# Altium footprint library Connector_Dsub.PcbLib: 120 footprints (part 8 of 8)
Each footprint in its own frame and in the unit in brackets; x right, y up, seen from the top. Pads: shape width x height; smd on the part's side, far side on the other; paste and mask are expansions set on the pad; w line width, h text height; cw(c..) or ccw(c..) is an arc to the next point about the centre after c.
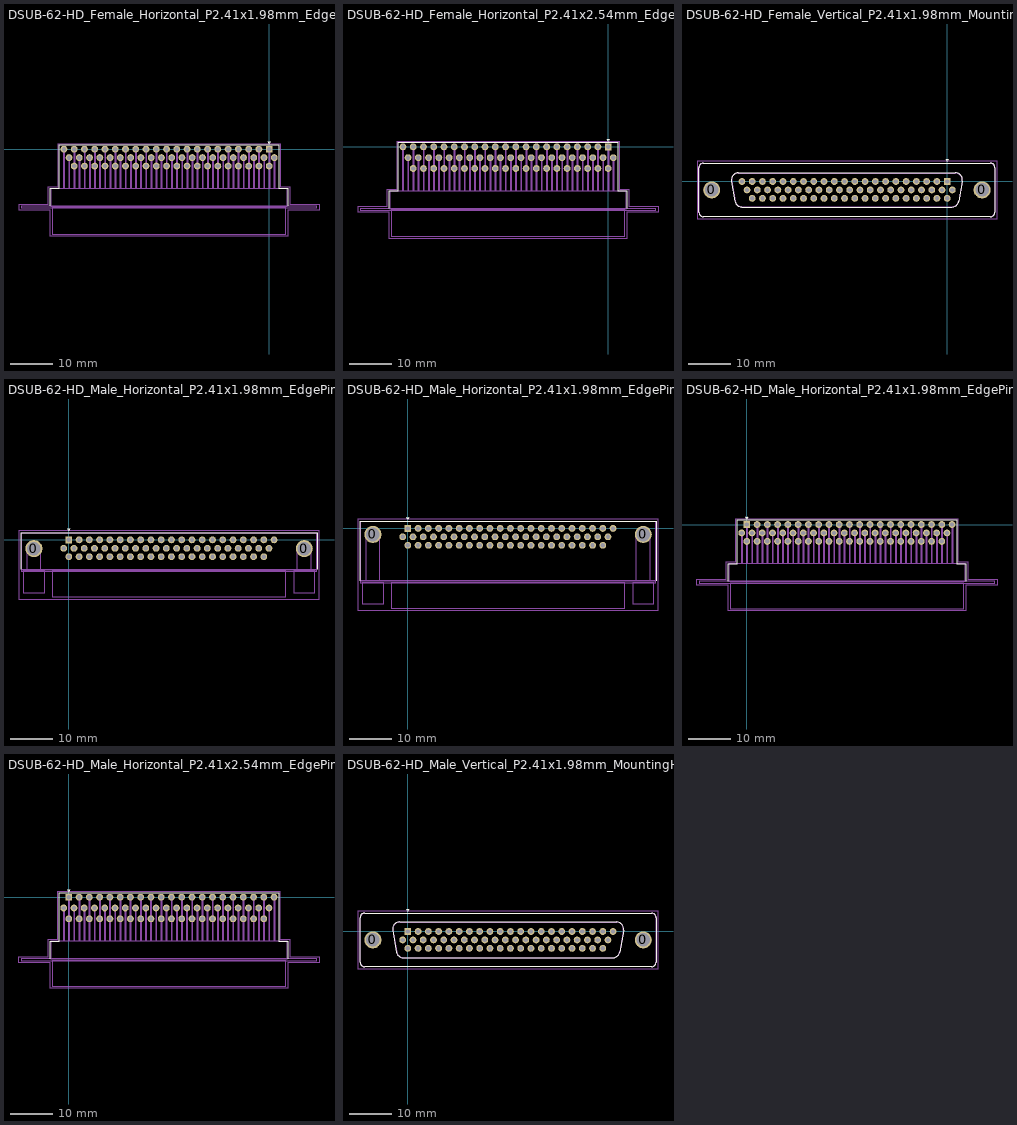
[diagram p7: the footprints below, top view; thin cyan lines are the x and y axes]

## DSUB-62-HD_Female_Horizontal_P2.41x1.98mm_EdgePinOffset9.40mm [mm]
pads (62):
  rect 1.6x1.6 hole 1: 1(0,0)
  round 1.6 hole 1: 2(-2.41,0) 3(-4.82,0) 4(-7.23,0) 5(-9.64,0) 6(-12.05,0) 7(-14.46,0) 8(-16.87,0) 9(-19.28,0) 10(-21.69,0) 11(-24.1,0) 12(-26.51,0) 13(-28.92,0) 14(-31.33,0) 15(-33.74,0) 16(-36.15,0) 17(-38.56,0) 18(-40.97,0) 19(-43.38,0) 20(-45.79,0) 21(-48.2,0) 22(1.205,-1.98) 23(-1.205,-1.98) 24(-3.615,-1.98) 25(-6.025,-1.98) 26(-8.435,-1.98) 27(-10.845,-1.98) 28(-13.255,-1.98) 29(-15.665,-1.98) 30(-18.075,-1.98) 31(-20.485,-1.98) 32(-22.895,-1.98) 33(-25.305,-1.98) 34(-27.715,-1.98) 35(-30.125,-1.98) 36(-32.535,-1.98) 37(-34.945,-1.98) 38(-37.355,-1.98) 39(-39.765,-1.98) 40(-42.175,-1.98) 41(-44.585,-1.98) 42(-46.995,-1.98) 43(0,-3.96) 44(-2.41,-3.96) 45(-4.82,-3.96) 46(-7.23,-3.96) 47(-9.64,-3.96) 48(-12.05,-3.96) 49(-14.46,-3.96) 50(-16.87,-3.96) 51(-19.28,-3.96) 52(-21.69,-3.96) 53(-24.1,-3.96) 54(-26.51,-3.96) 55(-28.92,-3.96) 56(-31.33,-3.96) 57(-33.74,-3.96) 58(-36.15,-3.96) 59(-38.56,-3.96) 60(-40.97,-3.96) 61(-43.38,-3.96) 62(-45.79,-3.96)
F.SilkS:
  lines w0.12: -51.405,-13.3 -51.405,-9.2 -49.26,-9.2 -49.26,1.06 2.265,1.06 2.265,-9.2 4.315,-9.2 4.315,-13.3 ; -0.25,1.754 0.25,1.754 0,1.321 -0.25,1.754
F.CrtYd:
  lines w0.05: -58.75,-14.3 -58.75,-12.9 -51.85,-12.9 -51.85,-8.8 -49.5,-8.8 -49.5,1.3 2.55,1.3 2.55,-8.8 4.8,-8.8 4.8,-12.9 11.7,-12.9 11.7,-14.3 4.4,-14.3 4.4,-20.45 -51.45,-20.45 -51.45,-14.3 -58.75,-14.3
F.Fab:
  drawing of 198 lines, arcs and shapes, not listed
  text "'.Designator'" at -27.592,-17.685 h1

## DSUB-62-HD_Female_Horizontal_P2.41x2.54mm_EdgePinOffset9.40mm [mm]
pads (62):
  rect 1.6x1.6 hole 1: 1(0,0)
  round 1.6 hole 1: 2(-2.41,0) 3(-4.82,0) 4(-7.23,0) 5(-9.64,0) 6(-12.05,0) 7(-14.46,0) 8(-16.87,0) 9(-19.28,0) 10(-21.69,0) 11(-24.1,0) 12(-26.51,0) 13(-28.92,0) 14(-31.33,0) 15(-33.74,0) 16(-36.15,0) 17(-38.56,0) 18(-40.97,0) 19(-43.38,0) 20(-45.79,0) 21(-48.2,0) 22(1.205,-2.54) 23(-1.205,-2.54) 24(-3.615,-2.54) 25(-6.025,-2.54) 26(-8.435,-2.54) 27(-10.845,-2.54) 28(-13.255,-2.54) 29(-15.665,-2.54) 30(-18.075,-2.54) 31(-20.485,-2.54) 32(-22.895,-2.54) 33(-25.305,-2.54) 34(-27.715,-2.54) 35(-30.125,-2.54) 36(-32.535,-2.54) 37(-34.945,-2.54) 38(-37.355,-2.54) 39(-39.765,-2.54) 40(-42.175,-2.54) 41(-44.585,-2.54) 42(-46.995,-2.54) 43(0,-5.08) 44(-2.41,-5.08) 45(-4.82,-5.08) 46(-7.23,-5.08) 47(-9.64,-5.08) 48(-12.05,-5.08) 49(-14.46,-5.08) 50(-16.87,-5.08) 51(-19.28,-5.08) 52(-21.69,-5.08) 53(-24.1,-5.08) 54(-26.51,-5.08) 55(-28.92,-5.08) 56(-31.33,-5.08) 57(-33.74,-5.08) 58(-36.15,-5.08) 59(-38.56,-5.08) 60(-40.97,-5.08) 61(-43.38,-5.08) 62(-45.79,-5.08)
F.SilkS:
  lines w0.12: -51.405,-14.42 -51.405,-10.32 -49.26,-10.32 -49.26,1.06 2.265,1.06 2.265,-10.32 4.315,-10.32 4.315,-14.42 ; -0.25,1.754 0.25,1.754 0,1.321 -0.25,1.754
F.CrtYd:
  lines w0.05: -58.75,-15.4 -51.45,-15.4 -51.45,-21.55 4.4,-21.55 4.4,-15.4 11.7,-15.4 11.7,-14 4.8,-14 4.8,-9.9 2.55,-9.9 2.55,1.35 -49.5,1.35 -49.5,-9.9 -51.85,-9.9 -51.85,-14 -58.75,-14 -58.75,-15.4
F.Fab:
  drawing of 198 lines, arcs and shapes, not listed
  text "'.Designator'" at -27.592,-18.805 h1

## DSUB-62-HD_Female_Vertical_P2.41x1.98mm_MountingHoles [mm]
pads (64):
  round 4 hole 3.2: 0(-55.295,-1.98) 0(8.205,-1.98)
  rect 1.6x1.6 hole 1: 1(0,0)
  round 1.6 hole 1: 2(-2.41,0) 3(-4.82,0) 4(-7.23,0) 5(-9.64,0) 6(-12.05,0) 7(-14.46,0) 8(-16.87,0) 9(-19.28,0) 10(-21.69,0) 11(-24.1,0) 12(-26.51,0) 13(-28.92,0) 14(-31.33,0) 15(-33.74,0) 16(-36.15,0) 17(-38.56,0) 18(-40.97,0) 19(-43.38,0) 20(-45.79,0) 21(-48.2,0) 22(1.205,-1.98) 23(-1.205,-1.98) 24(-3.615,-1.98) 25(-6.025,-1.98) 26(-8.435,-1.98) 27(-10.845,-1.98) 28(-13.255,-1.98) 29(-15.665,-1.98) 30(-18.075,-1.98) 31(-20.485,-1.98) 32(-22.895,-1.98) 33(-25.305,-1.98) 34(-27.715,-1.98) 35(-30.125,-1.98) 36(-32.535,-1.98) 37(-34.945,-1.98) 38(-37.355,-1.98) 39(-39.765,-1.98) 40(-42.175,-1.98) 41(-44.585,-1.98) 42(-46.995,-1.98) 43(0,-3.96) 44(-2.41,-3.96) 45(-4.82,-3.96) 46(-7.23,-3.96) 47(-9.64,-3.96) 48(-12.05,-3.96) 49(-14.46,-3.96) 50(-16.87,-3.96) 51(-19.28,-3.96) 52(-21.69,-3.96) 53(-24.1,-3.96) 54(-26.51,-3.96) 55(-28.92,-3.96) 56(-31.33,-3.96) 57(-33.74,-3.96) 58(-36.15,-3.96) 59(-38.56,-3.96) 60(-40.97,-3.96) 61(-43.38,-3.96) 62(-45.79,-3.96)
F.SilkS:
  lines w0.12: -58.305,-7.23 -58.305,3.27 cw(c-57.245,3.27) -57.245,4.33 10.155,4.33 cw(c10.155,3.27) 11.215,3.27 11.215,-7.23 cw(c10.155,-7.23) 10.155,-8.29 -57.245,-8.29 cw(c-57.245,-7.23) -58.305,-7.23 ; -50.661,0.082 -49.833,-4.618 ccw(c-48.198,-4.33) -48.198,-5.99 1.108,-5.99 ccw(c1.108,-4.33) 2.743,-4.618 3.571,0.082 ccw(c1.937,0.37) 1.937,2.03 -49.027,2.03 ccw(c-49.027,0.37) -50.661,0.082 ; -0.25,5.224 0.25,5.224 0,4.791 -0.25,5.224
F.CrtYd:
  lines w0.05: -58.75,-8.75 -58.75,4.8 11.7,4.8 11.7,-8.75 -58.75,-8.75
F.Fab:
  lines w0.1: -58.245,-7.23 -58.245,3.27 cw(c-57.245,3.27) -57.245,4.27 10.155,4.27 cw(c10.155,3.27) 11.155,3.27 11.155,-7.23 cw(c10.155,-7.23) 10.155,-8.23 -57.245,-8.23 cw(c-57.245,-7.23) -58.245,-7.23 ; -50.614,0.092 -49.785,-4.608 ccw(c-48.209,-4.33) -48.209,-5.93 1.119,-5.93 ccw(c1.119,-4.33) 2.695,-4.608 3.524,0.092 ccw(c1.948,0.37) 1.948,1.97 -49.038,1.97 ccw(c-49.038,0.37) -50.614,0.092
  text "'.Designator'" at -27.592,-2.82 h1

## DSUB-62-HD_Male_Horizontal_P2.41x1.98mm_EdgePinOffset3.03mm_Housed_MountingHolesOffset4.94mm [mm]
pads (64):
  round 4 hole 3.2: 0(-8.205,-2.05) 0(55.295,-2.05)
  rect 1.6x1.6 hole 1: 1(0,0)
  round 1.6 hole 1: 2(2.41,0) 3(4.82,0) 4(7.23,0) 5(9.64,0) 6(12.05,0) 7(14.46,0) 8(16.87,0) 9(19.28,0) 10(21.69,0) 11(24.1,0) 12(26.51,0) 13(28.92,0) 14(31.33,0) 15(33.74,0) 16(36.15,0) 17(38.56,0) 18(40.97,0) 19(43.38,0) 20(45.79,0) 21(48.2,0) 22(-1.205,-1.98) 23(1.205,-1.98) 24(3.615,-1.98) 25(6.025,-1.98) 26(8.435,-1.98) 27(10.845,-1.98) 28(13.255,-1.98) 29(15.665,-1.98) 30(18.075,-1.98) 31(20.485,-1.98) 32(22.895,-1.98) 33(25.305,-1.98) 34(27.715,-1.98) 35(30.125,-1.98) 36(32.535,-1.98) 37(34.945,-1.98) 38(37.355,-1.98) 39(39.765,-1.98) 40(42.175,-1.98) 41(44.585,-1.98) 42(46.995,-1.98) 43(0,-3.96) 44(2.41,-3.96) 45(4.82,-3.96) 46(7.23,-3.96) 47(9.64,-3.96) 48(12.05,-3.96) 49(14.46,-3.96) 50(16.87,-3.96) 51(19.28,-3.96) 52(21.69,-3.96) 53(24.1,-3.96) 54(26.51,-3.96) 55(28.92,-3.96) 56(31.33,-3.96) 57(33.74,-3.96) 58(36.15,-3.96) 59(38.56,-3.96) 60(40.97,-3.96) 61(43.38,-3.96) 62(45.79,-3.96)
F.SilkS:
  lines w0.12: -11.215,-6.93 -11.215,1.67 58.305,1.67 58.305,-6.93 ; -0.25,2.564 0,2.131 0.25,2.564 -0.25,2.564
F.CrtYd:
  lines w0.05: -11.7,-13.9 58.75,-13.9 58.75,2.15 -11.7,2.15 -11.7,-13.9
F.Fab:
  lines w0.1: -9.805,-6.99 -9.805,-2.05 cw(c-8.205,-2.05) -6.605,-2.05 -6.605,-6.99 ; 53.695,-6.99 53.695,-2.05 cw(c55.295,-2.05) 56.895,-2.05 56.895,-6.99 ; -11.155,-6.99 -11.155,-7.39 58.245,-7.39 58.245,-6.99 ; -11.155,-6.99 -11.155,1.61 58.245,1.61 58.245,-6.99 ; -11.155,-6.99 58.245,-6.99 ; -11.155,-6.99 58.245,-6.99 ; -10.705,-12.39 -10.705,-7.39 -5.705,-7.39 -5.705,-12.39 -10.705,-12.39 ; -3.855,-13.39 50.945,-13.39 50.945,-7.39 -3.855,-7.39 -3.855,-13.39 ; 52.795,-12.39 52.795,-7.39 57.795,-7.39 57.795,-12.39 52.795,-12.39
  text "'.Designator'" at 19.498,-11.23 h1

## DSUB-62-HD_Male_Horizontal_P2.41x1.98mm_EdgePinOffset8.35mm_Housed_MountingHolesOffset10.89mm [mm]
pads (64):
  round 4 hole 3.2: 0(-8.205,-1.42) 0(55.295,-1.42)
  rect 1.6x1.6 hole 1: 1(0,0)
  round 1.6 hole 1: 2(2.41,0) 3(4.82,0) 4(7.23,0) 5(9.64,0) 6(12.05,0) 7(14.46,0) 8(16.87,0) 9(19.28,0) 10(21.69,0) 11(24.1,0) 12(26.51,0) 13(28.92,0) 14(31.33,0) 15(33.74,0) 16(36.15,0) 17(38.56,0) 18(40.97,0) 19(43.38,0) 20(45.79,0) 21(48.2,0) 22(-1.205,-1.98) 23(1.205,-1.98) 24(3.615,-1.98) 25(6.025,-1.98) 26(8.435,-1.98) 27(10.845,-1.98) 28(13.255,-1.98) 29(15.665,-1.98) 30(18.075,-1.98) 31(20.485,-1.98) 32(22.895,-1.98) 33(25.305,-1.98) 34(27.715,-1.98) 35(30.125,-1.98) 36(32.535,-1.98) 37(34.945,-1.98) 38(37.355,-1.98) 39(39.765,-1.98) 40(42.175,-1.98) 41(44.585,-1.98) 42(46.995,-1.98) 43(0,-3.96) 44(2.41,-3.96) 45(4.82,-3.96) 46(7.23,-3.96) 47(9.64,-3.96) 48(12.05,-3.96) 49(14.46,-3.96) 50(16.87,-3.96) 51(19.28,-3.96) 52(21.69,-3.96) 53(24.1,-3.96) 54(26.51,-3.96) 55(28.92,-3.96) 56(31.33,-3.96) 57(33.74,-3.96) 58(36.15,-3.96) 59(38.56,-3.96) 60(40.97,-3.96) 61(43.38,-3.96) 62(45.79,-3.96)
F.SilkS:
  lines w0.12: -11.215,-12.25 -11.215,1.64 58.305,1.64 58.305,-12.25 ; -0.25,2.534 0,2.101 0.25,2.534 -0.25,2.534
F.CrtYd:
  lines w0.05: -11.7,-19.25 -11.7,2.1 58.75,2.1 58.75,-19.25 -11.7,-19.25
F.Fab:
  lines w0.1: -9.805,-12.31 -9.805,-1.42 cw(c-8.205,-1.42) -6.605,-1.42 -6.605,-12.31 ; 53.695,-12.31 53.695,-1.42 cw(c55.295,-1.42) 56.895,-1.42 56.895,-12.31 ; -11.155,-12.31 -11.155,1.58 58.245,1.58 58.245,-12.31 ; -11.155,-12.31 58.245,-12.31 ; -11.155,-12.31 -11.155,-12.71 58.245,-12.71 58.245,-12.31 ; -11.155,-12.31 58.245,-12.31 ; -10.705,-17.71 -10.705,-12.71 -5.705,-12.71 -5.705,-17.71 -10.705,-17.71 ; -3.855,-18.71 -3.855,-12.71 50.945,-12.71 50.945,-18.71 -3.855,-18.71 ; 52.795,-17.71 57.795,-17.71 57.795,-12.71 52.795,-12.71 52.795,-17.71
  text "'.Designator'" at 19.498,-16.55 h1

## DSUB-62-HD_Male_Horizontal_P2.41x1.98mm_EdgePinOffset9.40mm [mm]
pads (62):
  rect 1.6x1.6 hole 1: 1(0,0)
  round 1.6 hole 1: 2(2.41,0) 3(4.82,0) 4(7.23,0) 5(9.64,0) 6(12.05,0) 7(14.46,0) 8(16.87,0) 9(19.28,0) 10(21.69,0) 11(24.1,0) 12(26.51,0) 13(28.92,0) 14(31.33,0) 15(33.74,0) 16(36.15,0) 17(38.56,0) 18(40.97,0) 19(43.38,0) 20(45.79,0) 21(48.2,0) 22(-1.205,-1.98) 23(1.205,-1.98) 24(3.615,-1.98) 25(6.025,-1.98) 26(8.435,-1.98) 27(10.845,-1.98) 28(13.255,-1.98) 29(15.665,-1.98) 30(18.075,-1.98) 31(20.485,-1.98) 32(22.895,-1.98) 33(25.305,-1.98) 34(27.715,-1.98) 35(30.125,-1.98) 36(32.535,-1.98) 37(34.945,-1.98) 38(37.355,-1.98) 39(39.765,-1.98) 40(42.175,-1.98) 41(44.585,-1.98) 42(46.995,-1.98) 43(0,-3.96) 44(2.41,-3.96) 45(4.82,-3.96) 46(7.23,-3.96) 47(9.64,-3.96) 48(12.05,-3.96) 49(14.46,-3.96) 50(16.87,-3.96) 51(19.28,-3.96) 52(21.69,-3.96) 53(24.1,-3.96) 54(26.51,-3.96) 55(28.92,-3.96) 56(31.33,-3.96) 57(33.74,-3.96) 58(36.15,-3.96) 59(38.56,-3.96) 60(40.97,-3.96) 61(43.38,-3.96) 62(45.79,-3.96)
F.SilkS:
  lines w0.12: -4.315,-13.3 -4.315,-9.2 -2.265,-9.2 -2.265,1.06 49.26,1.06 49.26,-9.2 51.405,-9.2 51.405,-13.3 ; -0.25,1.754 0.25,1.754 0,1.321 -0.25,1.754
F.CrtYd:
  lines w0.05: -11.7,-14.3 -4.4,-14.3 -4.4,-20.3 51.45,-20.3 51.45,-14.3 58.75,-14.3 58.75,-12.9 51.85,-12.9 51.85,-8.8 49.5,-8.8 49.5,1.3 -2.55,1.3 -2.55,-8.8 -4.8,-8.8 -4.8,-12.9 -11.7,-12.9 -11.7,-14.3
F.Fab:
  drawing of 198 lines, arcs and shapes, not listed
  text "'.Designator'" at 19.498,-17.6 h1

## DSUB-62-HD_Male_Horizontal_P2.41x2.54mm_EdgePinOffset9.40mm [mm]
pads (62):
  rect 1.6x1.6 hole 1: 1(0,0)
  round 1.6 hole 1: 2(2.41,0) 3(4.82,0) 4(7.23,0) 5(9.64,0) 6(12.05,0) 7(14.46,0) 8(16.87,0) 9(19.28,0) 10(21.69,0) 11(24.1,0) 12(26.51,0) 13(28.92,0) 14(31.33,0) 15(33.74,0) 16(36.15,0) 17(38.56,0) 18(40.97,0) 19(43.38,0) 20(45.79,0) 21(48.2,0) 22(-1.205,-2.54) 23(1.205,-2.54) 24(3.615,-2.54) 25(6.025,-2.54) 26(8.435,-2.54) 27(10.845,-2.54) 28(13.255,-2.54) 29(15.665,-2.54) 30(18.075,-2.54) 31(20.485,-2.54) 32(22.895,-2.54) 33(25.305,-2.54) 34(27.715,-2.54) 35(30.125,-2.54) 36(32.535,-2.54) 37(34.945,-2.54) 38(37.355,-2.54) 39(39.765,-2.54) 40(42.175,-2.54) 41(44.585,-2.54) 42(46.995,-2.54) 43(0,-5.08) 44(2.41,-5.08) 45(4.82,-5.08) 46(7.23,-5.08) 47(9.64,-5.08) 48(12.05,-5.08) 49(14.46,-5.08) 50(16.87,-5.08) 51(19.28,-5.08) 52(21.69,-5.08) 53(24.1,-5.08) 54(26.51,-5.08) 55(28.92,-5.08) 56(31.33,-5.08) 57(33.74,-5.08) 58(36.15,-5.08) 59(38.56,-5.08) 60(40.97,-5.08) 61(43.38,-5.08) 62(45.79,-5.08)
F.SilkS:
  lines w0.12: -4.315,-14.42 -4.315,-10.32 -2.265,-10.32 -2.265,1.06 49.26,1.06 49.26,-10.32 51.405,-10.32 51.405,-14.42 ; -0.25,1.754 0,1.321 0.25,1.754 -0.25,1.754
F.CrtYd:
  lines w0.05: -11.7,-15.4 -11.7,-14 -4.8,-14 -4.8,-9.9 -2.55,-9.9 -2.55,1.35 49.5,1.35 49.5,-9.9 51.85,-9.9 51.85,-14 58.75,-14 58.75,-15.4 51.45,-15.4 51.45,-21.4 -4.4,-21.4 -4.4,-15.4 -11.7,-15.4
F.Fab:
  drawing of 198 lines, arcs and shapes, not listed
  text "'.Designator'" at 19.498,-18.72 h1

## DSUB-62-HD_Male_Vertical_P2.41x1.98mm_MountingHoles [mm]
pads (64):
  round 4 hole 3.2: 0(-8.205,-1.98) 0(55.295,-1.98)
  rect 1.6x1.6 hole 1: 1(0,0)
  round 1.6 hole 1: 2(2.41,0) 3(4.82,0) 4(7.23,0) 5(9.64,0) 6(12.05,0) 7(14.46,0) 8(16.87,0) 9(19.28,0) 10(21.69,0) 11(24.1,0) 12(26.51,0) 13(28.92,0) 14(31.33,0) 15(33.74,0) 16(36.15,0) 17(38.56,0) 18(40.97,0) 19(43.38,0) 20(45.79,0) 21(48.2,0) 22(-1.205,-1.98) 23(1.205,-1.98) 24(3.615,-1.98) 25(6.025,-1.98) 26(8.435,-1.98) 27(10.845,-1.98) 28(13.255,-1.98) 29(15.665,-1.98) 30(18.075,-1.98) 31(20.485,-1.98) 32(22.895,-1.98) 33(25.305,-1.98) 34(27.715,-1.98) 35(30.125,-1.98) 36(32.535,-1.98) 37(34.945,-1.98) 38(37.355,-1.98) 39(39.765,-1.98) 40(42.175,-1.98) 41(44.585,-1.98) 42(46.995,-1.98) 43(0,-3.96) 44(2.41,-3.96) 45(4.82,-3.96) 46(7.23,-3.96) 47(9.64,-3.96) 48(12.05,-3.96) 49(14.46,-3.96) 50(16.87,-3.96) 51(19.28,-3.96) 52(21.69,-3.96) 53(24.1,-3.96) 54(26.51,-3.96) 55(28.92,-3.96) 56(31.33,-3.96) 57(33.74,-3.96) 58(36.15,-3.96) 59(38.56,-3.96) 60(40.97,-3.96) 61(43.38,-3.96) 62(45.79,-3.96)
F.SilkS:
  lines w0.12: -11.215,-7.23 -11.215,3.27 cw(c-10.155,3.27) -10.155,4.33 57.245,4.33 cw(c57.245,3.27) 58.305,3.27 58.305,-7.23 cw(c57.245,-7.23) 57.245,-8.29 -10.155,-8.29 cw(c-10.155,-7.23) -11.215,-7.23 ; -3.571,0.282 -2.672,-4.818 ccw(c-1.037,-4.53) -1.037,-6.19 48.127,-6.19 ccw(c48.127,-4.53) 49.762,-4.818 50.661,0.282 ccw(c49.027,0.57) 49.027,2.23 -1.937,2.23 ccw(c-1.937,0.57) -3.571,0.282 ; -0.25,5.224 0.25,5.224 0,4.791 -0.25,5.224
F.CrtYd:
  lines w0.05: -11.7,-8.75 -11.7,4.8 58.75,4.8 58.75,-8.75 -11.7,-8.75
F.Fab:
  lines w0.1: -11.155,-7.23 -11.155,3.27 cw(c-10.155,3.27) -10.155,4.27 57.245,4.27 cw(c57.245,3.27) 58.245,3.27 58.245,-7.23 cw(c57.245,-7.23) 57.245,-8.23 -10.155,-8.23 cw(c-10.155,-7.23) -11.155,-7.23 ; -3.524,0.292 -2.625,-4.808 ccw(c-1.049,-4.53) -1.049,-6.13 48.139,-6.13 ccw(c48.139,-4.53) 49.715,-4.808 50.614,0.292 ccw(c49.038,0.57) 49.038,2.17 -1.948,2.17 ccw(c-1.948,0.57) -3.524,0.292
  text "'.Designator'" at 19.498,-2.82 h1